# Altium schematic symbol library W0802P_V2.0.SCHLIB: 9 symbols
Pins are listed as number, name and electrical type; pins without a type are passive.

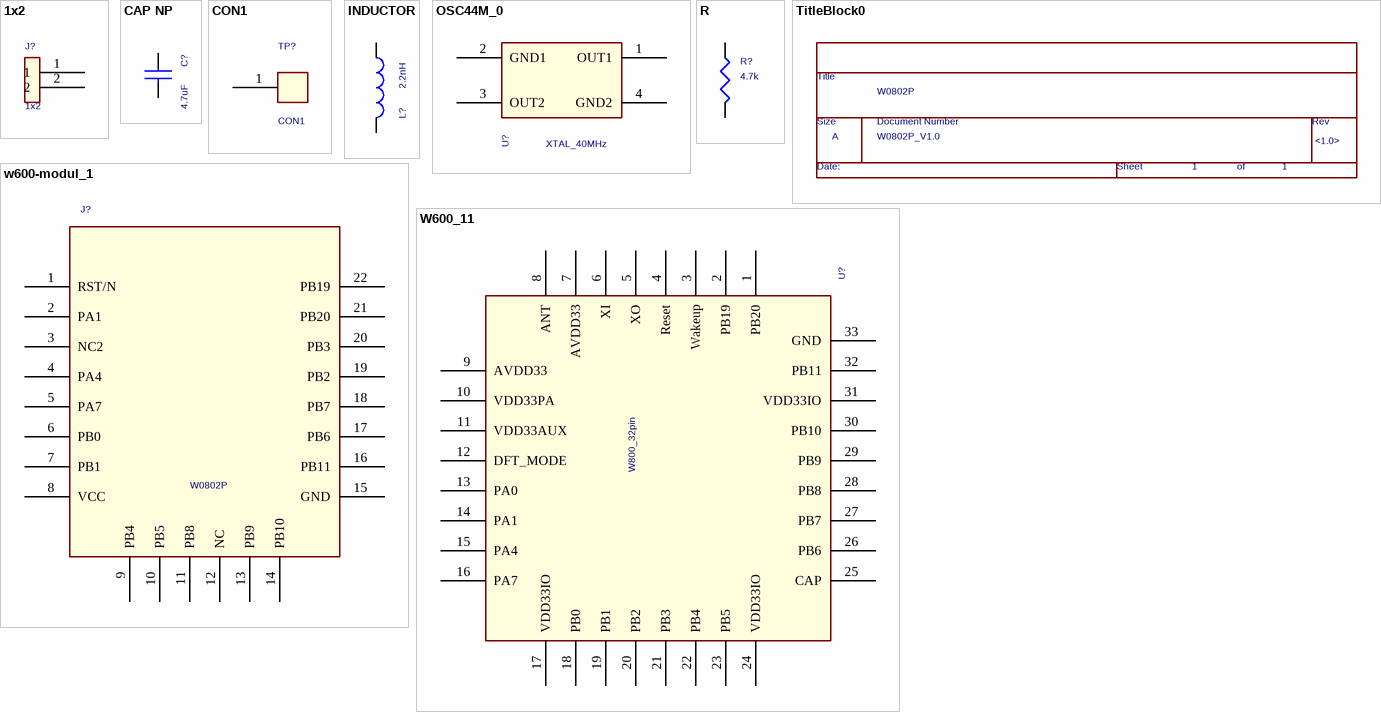
[diagram p0: symbols 1x2 to W600_11]

## 1x2
designator J?
footprint HDR254M-1x2
footprint w600_ant_4
pins: 1, 2

## CAP NP
designator C?, comment 4.7uF
footprint 0402
pins: 1, 2

## CON1
designator TP?
footprint testpoint_smd6060
pins: 1

## INDUCTOR
designator L?, comment 2.2nH
footprint R0402
pins: 1, 2

## OSC44M_0
designator U?, comment XTAL_40MHz
footprint XV40M
footprint OSCCC250X320X110
pins: 1 OUT1, 2 GND1, 3 OUT2, 4 GND2

## R
designator R?, comment 4.7k
footprint r0402
footprint 0402
pins: 1, 2

## TitleBlock0
designator *?  Page Count: 1  Page Size: A  Title: W0802P  RevCode: <1.0>  Doc: W0802P_V1.0  (hidden comment: TitleBlock0)  (graphical)
Page Number: 1; Page Create Date: March  8, 1995
text: Title; Size; Document Number; Rev; Date:; Sheet; of

## w600-modul_1
designator J?, comment W0802P
footprint w600modul-22-16x24
pins: 1 RST/N, 2 PA1 (power), 3 NC2, 4 PA4, 5 PA7 (power), 6 PB0, 7 PB1, 8 VCC (power), 9 PB4, 10 PB5, 11 PB8, 12 NC, 13 PB9, 14 PB10, 15 GND, 16 PB11, 17 PB6, 18 PB7 (power), 19 PB2, 20 PB3, 21 PB20, 22 PB19

## W600_11
designator U?, comment W800_32pin
footprint w800-qfn32
pins: 1 PB20, 2 PB19, 3 Wakeup, 4 Reset, 5 XO, 6 XI, 7 AVDD33 (power), 8 ANT, 9 AVDD33 (power), 10 VDD33PA (power), 11 VDD33AUX (power), 12 DFT_MODE, 13 PA0, 14 PA1, 15 PA4, 16 PA7, 17 VDD33IO (power), 18 PB0, 19 PB1, 20 PB2, 21 PB3, 22 PB4, 23 PB5, 24 VDD33IO (power), 25 CAP, 26 PB6 (power), 27 PB7, 28 PB8, 29 PB9, 30 PB10, 31 VDD33IO (power), 32 PB11, 33 GND